# EAGLE library part LEVEL-SHIFTER-4CH (library diy-modules)
4-Channel Bi-Directional Logic Level Converter
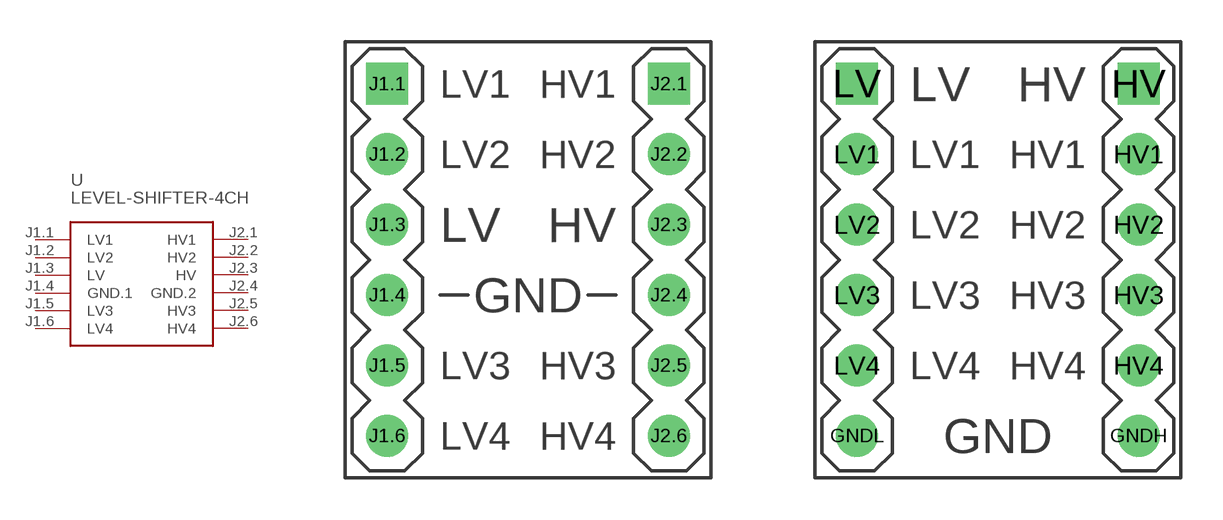
[diagram p49: symbol with the pads of LEVEL-SHIFTER-4CH; footprints LEVEL-SHIFTER-4CH, LEVEL-SHIFTER-4CH-ADAFRUIT]

Designator prefix -

## LEVEL-SHIFTER-4CH  [LEVEL-SHIFTER-4CH]
J1.1  LV1
J1.2  LV2
J1.3  LV  pwr
J1.4  GND.1  pwr
J1.5  LV3
J1.6  LV4
J2.1  HV1
J2.2  HV2
J2.3  HV  pwr
J2.4  GND.2  pwr
J2.5  HV3
J2.6  HV4

## LEVEL-SHIFTER-4CHLEVEL-SHIFTER-4CH-ADAFRUIT  [LEVEL-SHIFTER-4CH-ADAFRUIT]
GNDH  GND.2  pwr
GNDL  GND.1  pwr
HV  HV  pwr
HV1  HV1
HV2  HV2
HV3  HV3
HV4  HV4
LV  LV  pwr
LV1  LV1
LV2  LV2
LV3  LV3
LV4  LV4

## Footprint LEVEL-SHIFTER-4CH (pad centres in mm)
4-Channel Bi-Directional Logic Level Converter based on BSS128 transistors
drill 1 square: J1.1 -5.08,6.35; J2.1 5.08,6.35
drill 1: J1.2 -5.08,3.81; J1.3 -5.08,1.27; J1.4 -5.08,-1.27; J1.5 -5.08,-3.81; J1.6 -5.08,-6.35; J2.2 5.08,3.81; J2.3 5.08,1.27; J2.4 5.08,-1.27; J2.5 5.08,-3.81; J2.6 5.08,-6.35

## Footprint LEVEL-SHIFTER-4CH-ADAFRUIT (pad centres in mm)
4-Channel Bi-Directional Logic Level Converter
drill 1: GNDH 5.08,-6.35; GNDL -5.08,-6.35; HV1 5.08,3.81; HV2 5.08,1.27; HV3 5.08,-1.27; HV4 5.08,-3.81; LV1 -5.08,3.81; LV2 -5.08,1.27; LV3 -5.08,-1.27; LV4 -5.08,-3.81
drill 1 square: HV 5.08,6.35; LV -5.08,6.35